# EAGLE library part 5558342-1 (library RJ45)
CONN MOD JACK 8P8C R/A SHIELDED
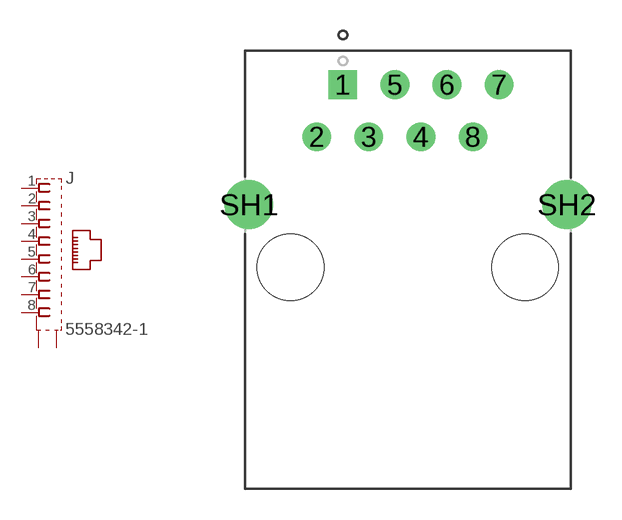
[diagram p0: symbol with the pads of TE_5558342-1; footprint TE_5558342-1]

Designator prefix J

## 5558342-1 (Comment: 5558342-1; Description: Conn RJ-45 F 8 POS 2.54mm Solder RA Thru-Hole 8 Terminal 1 Port Cat 5 Box/Tray; Digi-Key_Part_Number: A31466-ND; Digi-Key_Purchase_URL: https://www.digikey.com/product-detail/en/te-connectivity-amp-connectors/5558342-1/A31466-ND/769610?utm_source=snapeda&utm_medium=aggregator&utm_campaign=symbol; EU_RoHS_Compliance: Compliant; MF: TE Connectivity; MP: 5558342-1; Package: None; TE_purchase_URL: https://www.te.com/usa-en/product-5558342-1.html?te_bu=Cor&te_type=disp&te_campaign=seda_glo_cor-seda-global-disp-prtnr-fy19-seda-model-bom-cta_sma-317_1&elqCampaignId=32493)  [TE_5558342-1]
1  1  pas
2  2  pas
3  3  pas
4  4  pas
5  5  pas
6  6  pas
7  7  pas
8  8  pas
SH1  S1  pas
SH2  S2  pas

## Footprint TE_5558342-1 (pad centres in mm)
drill 0.89 square: 1 -3.175,8.89
drill 0.89: 2 -4.445,6.35; 3 -1.905,6.35; 4 0.635,6.35; 5 -0.635,8.89; 6 1.905,8.89; 7 4.445,8.89; 8 3.175,6.35
drill 1.58: SH1 -7.745,3.05; SH2 7.745,3.05
hole 3.25 at -5.715,0
hole 3.25 at 5.715,0